# EAGLE library part XBEE-WIFI (library greg)
XBEE WiFi
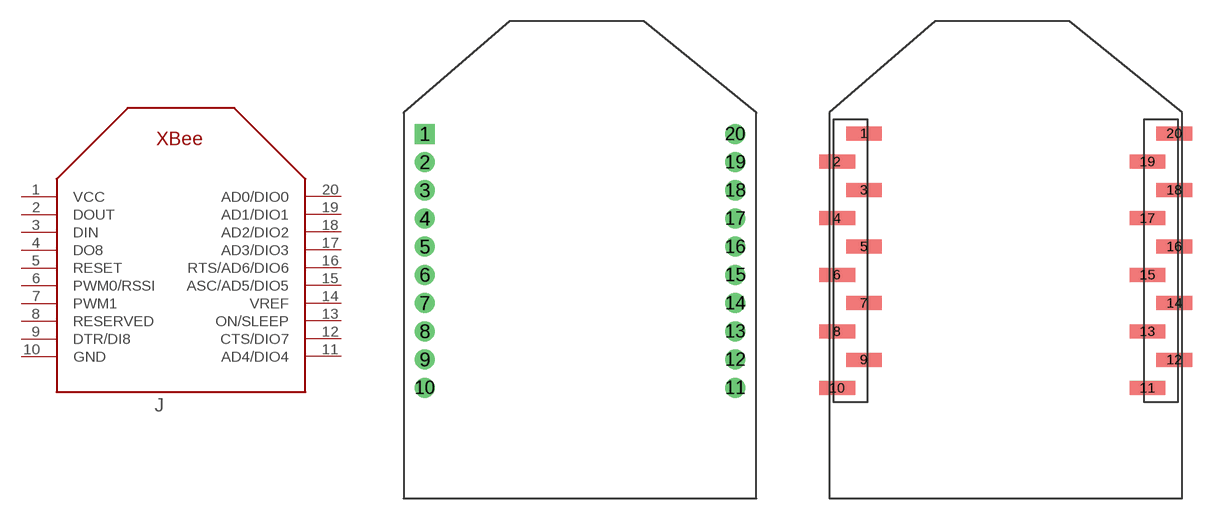
[diagram p8: symbol with the pads of XBEE-WIFI-PTH; footprints XBEE-WIFI-PTH, XBEE-WIFI-SMD-SOCKET]

Designator prefix J

## XBEE-WIFIPTH  [XBEE-WIFI-PTH]
1  VCC  sup
2  DOUT  out
3  DIN  in
4  DO8  out
5  RESET  in
6  PWM0/RSSI  out
7  PWM1  out
8  RESERVED  nc
9  DTR/DI8  in
10  GND  sup
11  AD4/DIO4
12  CTS/DIO7
13  ON/SLEEP  out
14  VREF  in
15  ASC/AD5/DIO5
16  RTS/AD6/DIO6
17  AD3/DIO3
18  AD2/DIO2
19  AD1/DIO1
20  AD0/DIO0

## XBEE-WIFISMD-SOCKET  [XBEE-WIFI-SMD-SOCKET]
Pads as for XBEE-WIFI-PTH

## XBEE-WIFISMD  [XBEE-WIFI-SMT]
1  GND  sup
2  VCC  sup
3  DOUT  out
4  DIN  in
5  DO8  out
6  RESET  in
7  PWM0/RSSI  out
8  PWM1  out
9  RESERVED  nc
10  DTR/DI8  in
11  GND  sup
13  GND  sup
18  RESERVED  nc
19  RESERVED  nc
20  RESERVED  nc
21  RESERVED  nc
22  GND  sup
23  RESERVED  nc
24  AD4/DIO4
25  CTS/DIO7
26  ON/SLEEP  out
27  VREF  in
28  ASC/AD5/DIO5
29  RTS/AD6/DIO6
30  AD3/DIO3
31  AD2/DIO2
32  AD1/DIO1
33  AD0/DIO0
34  RESERVED  nc
35  GND  sup
37  RESERVED  nc

## Footprint XBEE-WIFI-PTH (pad centres in mm)
XBEE WiFi PTH Socketed 2mm pitch 10p PTH headers. Example part: Harwin M22-7131042 <https://www.mouser.com/ds/2/181/M22-713-1134021.pdf>
drill 0.7 pad 1.422 square: 1 -11,5.5
drill 0.7 pad 1.422: 2 -11,3.5; 3 -11,1.5; 4 -11,-0.5; 5 -11,-2.5; 6 -11,-4.5; 7 -11,-6.5; 8 -11,-8.5; 9 -11,-10.5; 10 -11,-12.5; 11 11,-12.5; 12 11,-10.5; 13 11,-8.5; 14 11,-6.5; 15 11,-4.5; 16 11,-2.5; 17 11,-0.5; 18 11,1.5; 19 11,3.5; 20 11,5.5

## Footprint XBEE-WIFI-SMD-SOCKET (pad centres in mm)
XBEE WiFi SMD Socketed 2mm pitch 10p SMD headers. Example part: NorComp 28631006RP2 <https://www.mouser.com/ds/2/296/2863YY06RP2-49706.pdf>
smd 2.54 x 0.991: 1 -10.04,5.537; 2 -11.945,3.531; 3 -10.04,1.524; 4 -11.945,-0.482; 5 -10.04,-2.489; 6 -11.945,-4.495; 7 -10.04,-6.502; 8 -11.945,-8.509; 9 -10.04,-10.515; 10 -11.945,-12.522; 11 10.055,-12.522; 12 11.96,-10.515; 13 10.055,-8.509; 14 11.96,-6.502; 15 10.055,-4.495; 16 11.96,-2.489; 17 10.055,-0.482; 18 11.96,1.524; 19 10.055,3.531; 20 11.96,5.537

## Footprint XBEE-WIFI-SMT (pad centres in mm)
XBEE WiFi SMD XBEE WiFi surface mount package (castellated)
smd 2.845 x 1.524: 1 -10.744,9.195; 2 -10.744,7.188; 3 -10.744,5.182; 4 -10.744,3.175; 5 -10.744,1.168; 6 -10.744,-0.838; 7 -10.744,-2.845; 8 -10.744,-4.851; 9 -10.744,-6.858; 10 -10.744,-8.865; 11 -10.744,-10.871; 12 -10.744,-12.878; 13 -10.744,-14.884; 22 10.744,-14.884; 23 10.744,-12.878; 24 10.744,-10.871; 25 10.744,-8.865; 26 10.744,-6.858; 27 10.744,-4.851; 28 10.744,-2.845; 29 10.744,-0.838; 30 10.744,1.168; 31 10.744,3.175; 32 10.744,5.182; 33 10.744,7.188; 34 10.744,9.195; 35 10.744,11.201; 36 10.744,13.208; 37 10.744,15.215
smd 1.524 x 2.845: 14 -6.985,-16.637; 15 -4.978,-16.637; 16 -2.972,-16.637; 17 -0.965,-16.637; 18 1.041,-16.637; 19 3.048,-16.637; 20 5.055,-16.637; 21 7.061,-16.637